# Altium schematic symbol library CAP POL 1000uF TH.Schlib: 1 symbol
Pins are listed as number, name and electrical type; pins without a type are passive.

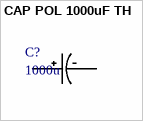
[diagram p0: symbol CAP POL 1000uF TH]

## CAP POL 1000uF TH
designator C?, comment 1000u
NICHICON   UVR1E102MPD1TD   ALUMINUM ELECTROLYTIC CAPACITOR, 1000UF, 25V, 20%, RADIAL, FULL REEL
pins: NEG, POS